# Altium footprint library MCU.PcbLib: 3 footprints
Each footprint in its own frame and in the unit in brackets; x right, y up, seen from the top. Pads: shape width x height; smd on the part's side, far side on the other; paste and mask are expansions set on the pad; w line width, h text height; cw(c..) or ccw(c..) is an arc to the next point about the centre after c.
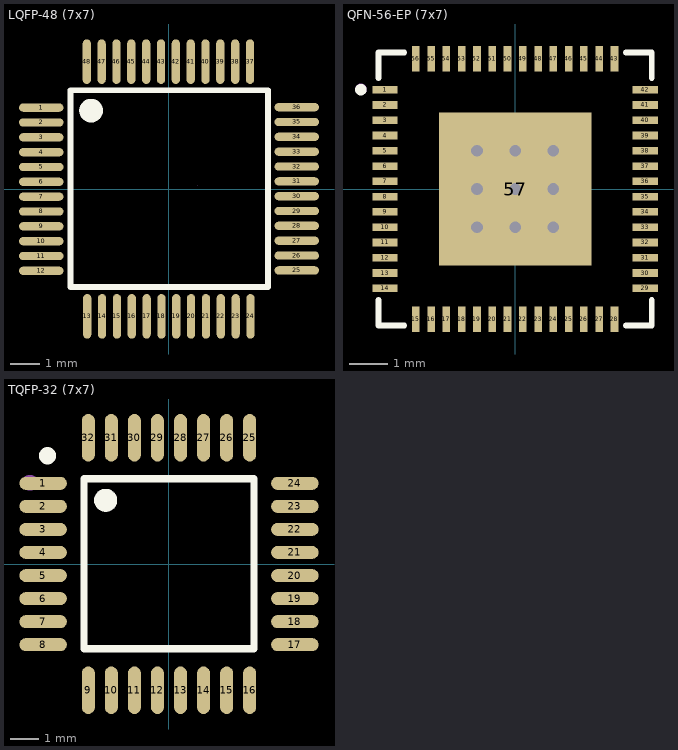
[diagram p0: the footprints below, top view; thin cyan lines are the x and y axes]

## LQFP-48 (7x7) [mm]
pads (48):
  oval 1.5x0.28 smd paste+0 mask+0.051: 1(-4.305,2.743) 2(-4.305,2.243) 3(-4.305,1.742) 4(-4.305,1.242) 5(-4.305,0.742) 6(-4.305,0.241) 7(-4.305,-0.257) 8(-4.305,-0.757) 9(-4.305,-1.257) 10(-4.305,-1.758) 11(-4.305,-2.258) 12(-4.305,-2.758) 25(4.305,-2.743) 26(4.305,-2.243) 27(4.305,-1.742) 28(4.305,-1.242) 29(4.305,-0.742) 30(4.305,-0.241) 31(4.305,0.257) 32(4.305,0.757) 33(4.305,1.257) 34(4.305,1.758) 35(4.305,2.258) 36(4.305,2.758)
  oval 0.28x1.5 smd paste+0 mask+0.051: 13(-2.756,-4.293) 14(-2.256,-4.293) 15(-1.755,-4.293) 16(-1.255,-4.293) 17(-0.754,-4.293) 18(-0.254,-4.293) 19(0.244,-4.293) 20(0.744,-4.293) 21(1.245,-4.293) 22(1.745,-4.293) 23(2.245,-4.293) 24(2.746,-4.293) 37(2.731,4.293) 38(2.23,4.293) 39(1.73,4.293) 40(1.229,4.293) 41(0.729,4.293) 42(0.229,4.293) 43(-0.269,4.293) 44(-0.77,4.293) 45(-1.27,4.293) 46(-1.77,4.293) 47(-2.271,4.293) 48(-2.771,4.293)
Top Overlay:
  lines w0.2: 3.34,2.565 3.34,3.327 -3.315,3.327 -3.315,-3.302 3.34,-3.302 3.34,2.896
  lines w0.4: -2.426,2.639 cw(c-2.626,2.64) -2.426,2.642
Mechanical 15:
  lines w0.003: 0.952,0.127 0.953,0.127
3D body "LQFP48_STM.step": height 1.6, standoff 0, extent -4.605,-4.597 4.589,4.597

## QFN-56-EP (7x7) [mm]
pads (57):
  rect 0.665x0.2 smd paste+0 mask+0.051: 1(-3.408,2.6) 2(-3.408,2.2) 3(-3.408,1.8) 4(-3.408,1.4) 5(-3.408,1) 6(-3.408,0.6) 7(-3.408,0.2) 8(-3.408,-0.2) 9(-3.408,-0.6) 10(-3.408,-1) 11(-3.408,-1.4) 12(-3.408,-1.8) 13(-3.408,-2.2) 14(-3.408,-2.6) 29(3.408,-2.6) 30(3.408,-2.2) 31(3.408,-1.8) 32(3.408,-1.4) 33(3.408,-1) 34(3.408,-0.6) 35(3.408,-0.2) 36(3.408,0.2) 37(3.408,0.6) 38(3.408,1) 39(3.408,1.4) 40(3.408,1.8) 41(3.408,2.2) 42(3.408,2.6)
  rect 0.2x0.665 smd paste+0 mask+0.051: 15(-2.6,-3.408) 16(-2.2,-3.408) 17(-1.8,-3.408) 18(-1.4,-3.408) 19(-1,-3.408) 20(-0.6,-3.408) 21(-0.2,-3.408) 22(0.2,-3.408) 23(0.6,-3.408) 24(1,-3.408) 25(1.4,-3.408) 26(1.8,-3.408) 27(2.2,-3.408) 28(2.6,-3.408)
  rect 0.2x0.665 smd mask+0.051: 43(2.6,3.408) 44(2.2,3.408) 45(1.8,3.408) 46(1.4,3.408) 47(1,3.408) 48(0.6,3.408) 49(0.2,3.408) 50(-0.2,3.408) 51(-0.6,3.408) 52(-1,3.408) 53(-1.4,3.408) 54(-1.8,3.408) 55(-2.2,3.408) 56(-2.6,3.408)
  rect 4x4 smd paste+0 mask+0.051: 57(0,0)
via 1,0 diameter 0.61 hole 0.305
via 1,1 diameter 0.61 hole 0.305
via -1,0 diameter 0.61 hole 0.305
via -1,1 diameter 0.61 hole 0.305
via 1,-1 diameter 0.61 hole 0.305
via -1,-1 diameter 0.61 hole 0.305
via 0,0 diameter 0.61 hole 0.305
via 0.001,-1 diameter 0.61 hole 0.305
via 0,1 diameter 0.61 hole 0.305
Top Overlay:
  circle w0.15: c-4.04,2.6 r0.075
  lines w0.152: -3.576,-2.903 -3.576,-3.576 -2.903,-3.576 ; -3.576,2.903 -3.576,3.576 -2.903,3.576 ; 2.903,-3.576 3.576,-3.576 3.576,-2.903 ; 2.903,3.576 3.576,3.576 3.576,2.903
Mechanical 15:
  circle w0.15: c-4.039,2.61 r0.075
3D body "QFN56_7X7_EXP.step": height 0.89, standoff 0, extent -3.525,-3.525 3.525,3.525

## TQFP-32 (7x7) [mm]
pads (32):
  oval 1.65x0.45 smd paste+0 mask+0.051: 1(-4.369,2.8) 2(-4.369,2) 3(-4.369,1.2) 4(-4.369,0.4) 5(-4.369,-0.4) 6(-4.369,-1.2) 7(-4.369,-2) 8(-4.369,-2.8) 17(4.369,-2.8) 18(4.369,-2) 19(4.369,-1.2) 20(4.369,-0.4) 21(4.369,0.4) 22(4.369,1.2) 23(4.369,2) 24(4.369,2.8)
  oval 0.45x1.65 smd paste+0 mask+0.051: 9(-2.8,-4.381) 10(-2,-4.381) 11(-1.2,-4.381) 12(-0.4,-4.381) 13(0.4,-4.381) 14(1.2,-4.381) 15(2,-4.381) 16(2.8,-4.381) 25(2.8,4.382) 26(2,4.382) 27(1.2,4.382) 28(0.4,4.382) 29(-0.4,4.382) 30(-1.2,4.382) 31(-2,4.382) 32(-2.8,4.382)
Top Overlay:
  lines w0.254: -2.95,-2.937 -2.95,2.963 2.95,2.963 2.95,-2.937 -2.95,-2.937
  lines w0.3: -4.064,3.757 cw(c-4.214,3.758) -4.064,3.759
  lines w0.4: -1.999,2.21 cw(c-2.199,2.211) -1.999,2.212
Mechanical 15:
  circle w0.254: c-4.826,2.819 r0.127
  lines w0.254: -4.826,2.671 ccw(c-4.826,2.819) -4.826,2.967 ccw(c-4.826,2.819) -4.826,2.671
3D body "ATMega328p.stp": height 0.53, standoff -0.03, extent -4.504,-4.504 4.504,4.504